# Altium integrated library National Semiconductor LDO.IntLib: 2675 symbols (part 22 of 65)
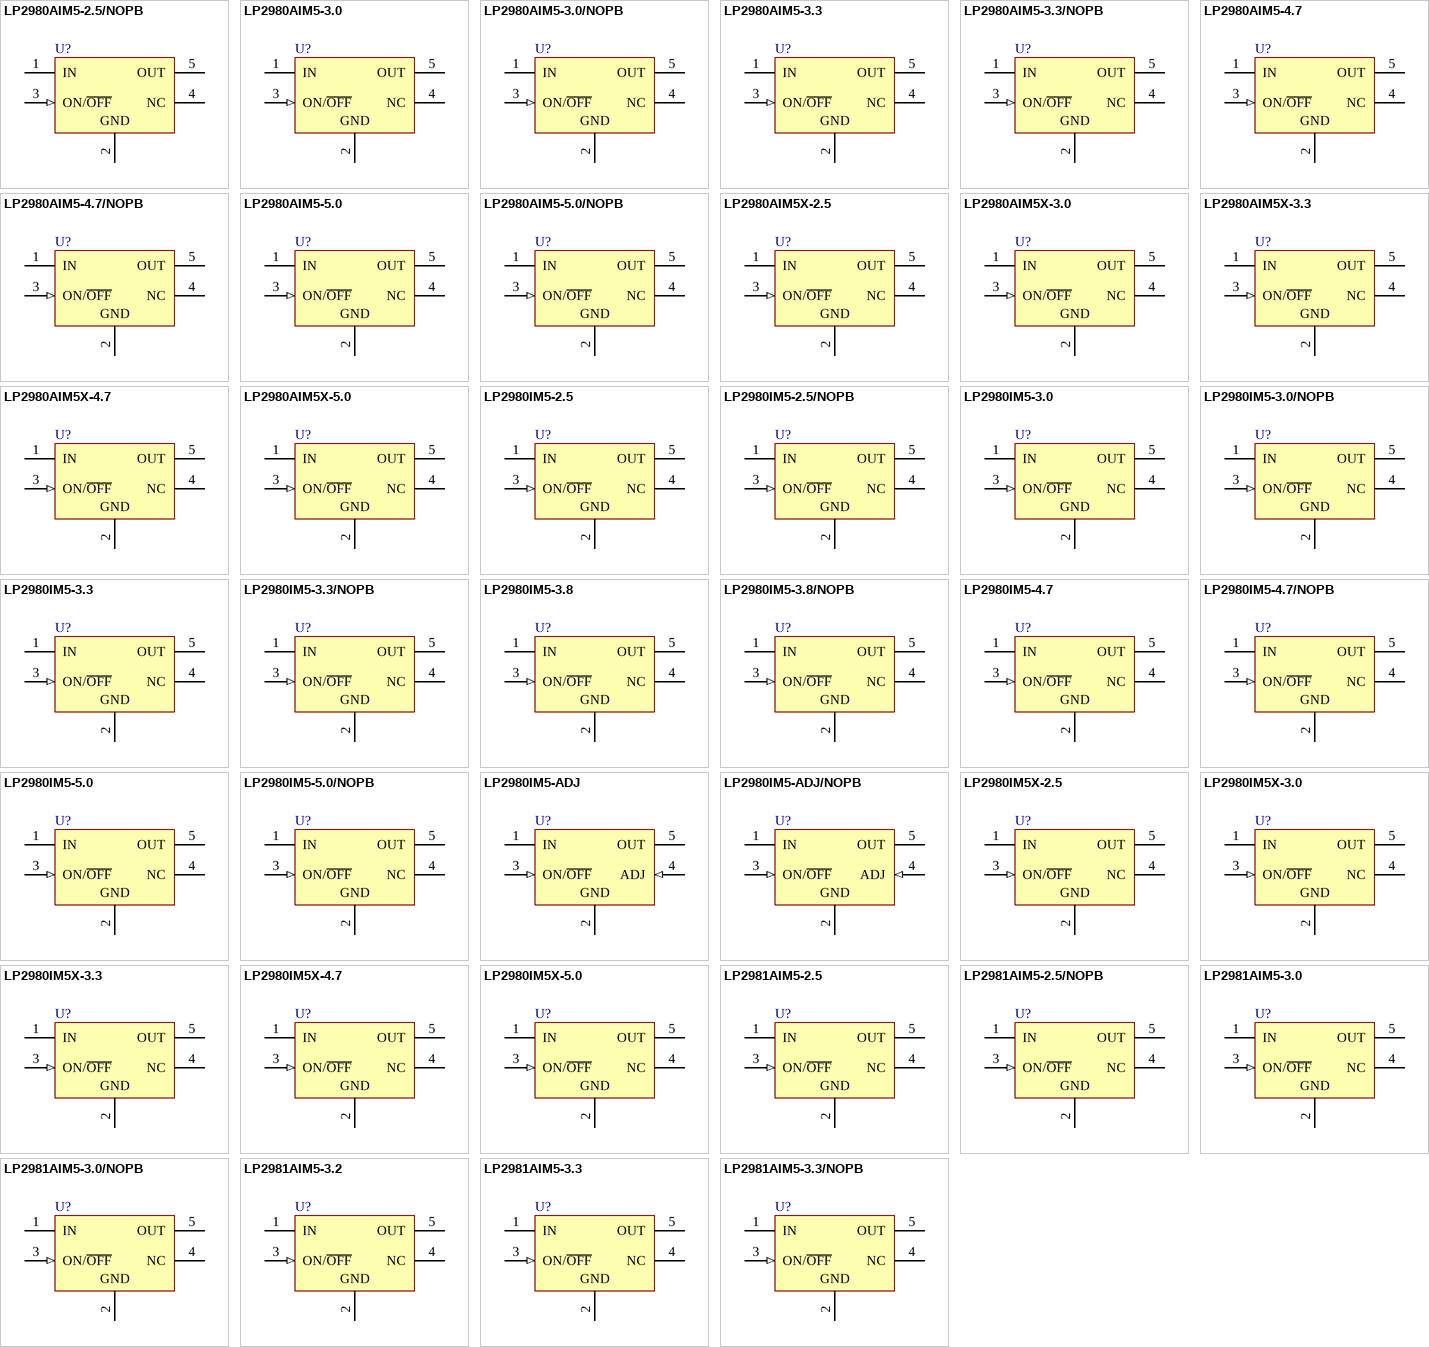
[diagram p88: symbols LP2980AIM5-2.5/NOPB to LP2981AIM5-3.3/NOPB]

## LP2980IM5-3.8/NOPB
designator U?
Micropower 50 mA Ultra Low-Dropout Regulator, 5-pin SOT-23, Pb-Free; PartNumber: LP2980IM5-3.8/NOPB; Manufacturer: National Semiconductor; PackageTopMarking: L21B*XTT; PowerWise: N; CompType: LDO IC; High-Reliability: Y; DatasheetVersion: Sep-2006; PackageVersion: revD, Aug-2008; PackageReference: MF05A; PackageDescription: Molded SOT-23, .115 x .063 x .040 in Body, 5 Lead, .0375 in Pitch; RoHS: Y; PinCount: 5; ComponentLink1Description: Manufacturer URL; ComponentLink1URL: http://www.national.com/; ComponentLink2Description: LP2980 Datasheet; ComponentLink2URL: http://www.national.com/ds/LP/LP2980.pdf; ComponentLink3Description: LP2980 Web Page; ComponentLink3URL: http://www.national.com/pf/LP/LP2980.html; ComponentLink4Description: MF05A Package Page; ComponentLink4URL: http://www.national.com/packaging/folders/mf05a.html
footprint MF05A_N (SOT23, 5-Leads, Body 2.9x1.6mm, Pitch 0.95mm, Lead Span 2.8mm, IPC Medium Density)
footprint MF05A_L (SOT23, 5-Leads, Body 2.9x1.6mm, Pitch 0.95mm, Lead Span 2.8mm, IPC High Density)
footprint MF05A_M (SOT23, 5-Leads, Body 2.9x1.6mm, Pitch 0.95mm, Lead Span 2.8mm, IPC Low Density)
pins: 1 IN (power), 2 GND (power), 3 ON/~{OFF} (in), 4 NC, 5 OUT (power)

## LP2980IM5-4.7
designator U?
Micropower 50 mA Ultra Low-Dropout Regulator, 5-pin SOT-23; PartNumber: LP2980IM5-4.7; Manufacturer: National Semiconductor; PackageTopMarking: L37B*XTT; PowerWise: N; CompType: LDO IC; High-Reliability: Y; DatasheetVersion: Sep-2006; PackageVersion: revD, Aug-2008; PackageReference: MF05A; PackageDescription: Molded SOT-23, .115 x .063 x .040 in Body, 5 Lead, .0375 in Pitch; RoHS: N; PinCount: 5; ComponentLink1Description: Manufacturer URL; ComponentLink1URL: http://www.national.com/; ComponentLink2Description: LP2980 Datasheet; ComponentLink2URL: http://www.national.com/ds/LP/LP2980.pdf; ComponentLink3Description: LP2980 Web Page; ComponentLink3URL: http://www.national.com/pf/LP/LP2980.html; ComponentLink4Description: MF05A Package Page; ComponentLink4URL: http://www.national.com/packaging/folders/mf05a.html
footprint MF05A_N (SOT23, 5-Leads, Body 2.9x1.6mm, Pitch 0.95mm, Lead Span 2.8mm, IPC Medium Density)
footprint MF05A_L (SOT23, 5-Leads, Body 2.9x1.6mm, Pitch 0.95mm, Lead Span 2.8mm, IPC High Density)
footprint MF05A_M (SOT23, 5-Leads, Body 2.9x1.6mm, Pitch 0.95mm, Lead Span 2.8mm, IPC Low Density)
pins: 1 IN (power), 2 GND (power), 3 ON/~{OFF} (in), 4 NC, 5 OUT (power)

## LP2980IM5-4.7/NOPB
designator U?
Micropower 50 mA Ultra Low-Dropout Regulator, 5-pin SOT-23, Pb-Free; PartNumber: LP2980IM5-4.7/NOPB; Manufacturer: National Semiconductor; PackageTopMarking: L37B*XTT; PowerWise: N; CompType: LDO IC; High-Reliability: Y; DatasheetVersion: Sep-2006; PackageVersion: revD, Aug-2008; PackageReference: MF05A; PackageDescription: Molded SOT-23, .115 x .063 x .040 in Body, 5 Lead, .0375 in Pitch; RoHS: Y; PinCount: 5; ComponentLink1Description: Manufacturer URL; ComponentLink1URL: http://www.national.com/; ComponentLink2Description: LP2980 Datasheet; ComponentLink2URL: http://www.national.com/ds/LP/LP2980.pdf; ComponentLink3Description: LP2980 Web Page; ComponentLink3URL: http://www.national.com/pf/LP/LP2980.html; ComponentLink4Description: MF05A Package Page; ComponentLink4URL: http://www.national.com/packaging/folders/mf05a.html
footprint MF05A_N (SOT23, 5-Leads, Body 2.9x1.6mm, Pitch 0.95mm, Lead Span 2.8mm, IPC Medium Density)
footprint MF05A_L (SOT23, 5-Leads, Body 2.9x1.6mm, Pitch 0.95mm, Lead Span 2.8mm, IPC High Density)
footprint MF05A_M (SOT23, 5-Leads, Body 2.9x1.6mm, Pitch 0.95mm, Lead Span 2.8mm, IPC Low Density)
pins: 1 IN (power), 2 GND (power), 3 ON/~{OFF} (in), 4 NC, 5 OUT (power)

## LP2980IM5-5.0
designator U?
Micropower 50 mA Ultra Low-Dropout Regulator, 5-pin SOT-23; PartNumber: LP2980IM5-5.0; Manufacturer: National Semiconductor; PackageTopMarking: L01B*XTT; PowerWise: N; CompType: LDO IC; High-Reliability: Y; DatasheetVersion: Sep-2006; PackageVersion: revD, Aug-2008; PackageReference: MF05A; PackageDescription: Molded SOT-23, .115 x .063 x .040 in Body, 5 Lead, .0375 in Pitch; RoHS: N; PinCount: 5; ComponentLink1Description: Manufacturer URL; ComponentLink1URL: http://www.national.com/; ComponentLink2Description: LP2980 Datasheet; ComponentLink2URL: http://www.national.com/ds/LP/LP2980.pdf; ComponentLink3Description: LP2980 Web Page; ComponentLink3URL: http://www.national.com/pf/LP/LP2980.html; ComponentLink4Description: MF05A Package Page; ComponentLink4URL: http://www.national.com/packaging/folders/mf05a.html
footprint MF05A_N (SOT23, 5-Leads, Body 2.9x1.6mm, Pitch 0.95mm, Lead Span 2.8mm, IPC Medium Density)
footprint MF05A_L (SOT23, 5-Leads, Body 2.9x1.6mm, Pitch 0.95mm, Lead Span 2.8mm, IPC High Density)
footprint MF05A_M (SOT23, 5-Leads, Body 2.9x1.6mm, Pitch 0.95mm, Lead Span 2.8mm, IPC Low Density)
pins: 1 IN (power), 2 GND (power), 3 ON/~{OFF} (in), 4 NC, 5 OUT (power)

## LP2980IM5-5.0/NOPB
designator U?
Micropower 50 mA Ultra Low-Dropout Regulator, 5-pin SOT-23, Pb-Free; PartNumber: LP2980IM5-5.0/NOPB; Manufacturer: National Semiconductor; PackageTopMarking: L01B*XTT; PowerWise: N; CompType: LDO IC; High-Reliability: Y; DatasheetVersion: Sep-2006; PackageVersion: revD, Aug-2008; PackageReference: MF05A; PackageDescription: Molded SOT-23, .115 x .063 x .040 in Body, 5 Lead, .0375 in Pitch; RoHS: Y; PinCount: 5; ComponentLink1Description: Manufacturer URL; ComponentLink1URL: http://www.national.com/; ComponentLink2Description: LP2980 Datasheet; ComponentLink2URL: http://www.national.com/ds/LP/LP2980.pdf; ComponentLink3Description: LP2980 Web Page; ComponentLink3URL: http://www.national.com/pf/LP/LP2980.html; ComponentLink4Description: MF05A Package Page; ComponentLink4URL: http://www.national.com/packaging/folders/mf05a.html
footprint MF05A_N (SOT23, 5-Leads, Body 2.9x1.6mm, Pitch 0.95mm, Lead Span 2.8mm, IPC Medium Density)
footprint MF05A_L (SOT23, 5-Leads, Body 2.9x1.6mm, Pitch 0.95mm, Lead Span 2.8mm, IPC High Density)
footprint MF05A_M (SOT23, 5-Leads, Body 2.9x1.6mm, Pitch 0.95mm, Lead Span 2.8mm, IPC Low Density)
pins: 1 IN (power), 2 GND (power), 3 ON/~{OFF} (in), 4 NC, 5 OUT (power)

## LP2980IM5-ADJ
designator U?
Micropower 50 mA Ultra Low-Dropout Regulator, 5-pin SOT-23; PartNumber: LP2980IM5-ADJ; Manufacturer: National Semiconductor; PackageTopMarking: L06B*XTT; PowerWise: N; CompType: LDO IC; High-Reliability: Y; DatasheetVersion: Sep-2006; PackageVersion: revD, Aug-2008; PackageReference: MF05A; PackageDescription: Molded SOT-23, .115 x .063 x .040 in Body, 5 Lead, .0375 in Pitch; RoHS: N; PinCount: 5; ComponentLink1Description: Manufacturer URL; ComponentLink1URL: http://www.national.com/; ComponentLink2Description: LP2980 Datasheet; ComponentLink2URL: http://www.national.com/ds/LP/LP2980-ADJ.pdf; ComponentLink3Description: LP2980 Web Page; ComponentLink3URL: http://www.national.com/pf/LP/LP2980.html; ComponentLink4Description: MF05A Package Page; ComponentLink4URL: http://www.national.com/packaging/folders/mf05a.html
footprint MF05A_N (SOT23, 5-Leads, Body 2.9x1.6mm, Pitch 0.95mm, Lead Span 2.8mm, IPC Medium Density)
footprint MF05A_L (SOT23, 5-Leads, Body 2.9x1.6mm, Pitch 0.95mm, Lead Span 2.8mm, IPC High Density)
footprint MF05A_M (SOT23, 5-Leads, Body 2.9x1.6mm, Pitch 0.95mm, Lead Span 2.8mm, IPC Low Density)
pins: 1 IN (power), 2 GND (power), 3 ON/~{OFF} (in), 4 ADJ (in), 5 OUT (power)

## LP2980IM5-ADJ/NOPB
designator U?
Micropower 50 mA Ultra Low-Dropout Adjustable Voltage Regulator, 5-pin SOT-23, Pb-Free; PartNumber: LP2980IM5-ADJ/NOPB; Manufacturer: National Semiconductor; PackageTopMarking: L06B*XTT; PowerWise: N; CompType: LDO IC; High-Reliability: Y; DatasheetVersion: Sep-2006; PackageVersion: revD, Aug-2008; PackageReference: MF05A; PackageDescription: Molded SOT-23, .115 x .063 x .040 in Body, 5 Lead, .0375 in Pitch; RoHS: Y; PinCount: 5; ComponentLink1Description: Manufacturer URL; ComponentLink1URL: http://www.national.com/; ComponentLink2Description: LP2980 Datasheet; ComponentLink2URL: http://www.national.com/ds/LP/LP2980-ADJ.pdf; ComponentLink3Description: LP2980 Web Page; ComponentLink3URL: http://www.national.com/pf/LP/LP2980.html; ComponentLink4Description: MF05A Package Page; ComponentLink4URL: http://www.national.com/packaging/folders/mf05a.html
footprint MF05A_N (SOT23, 5-Leads, Body 2.9x1.6mm, Pitch 0.95mm, Lead Span 2.8mm, IPC Medium Density)
footprint MF05A_L (SOT23, 5-Leads, Body 2.9x1.6mm, Pitch 0.95mm, Lead Span 2.8mm, IPC High Density)
footprint MF05A_M (SOT23, 5-Leads, Body 2.9x1.6mm, Pitch 0.95mm, Lead Span 2.8mm, IPC Low Density)
pins: 1 IN (power), 2 GND (power), 3 ON/~{OFF} (in), 4 ADJ (in), 5 OUT (power)

## LP2980IM5X-2.5
designator U?
Micropower 50 mA Ultra Low-Dropout Regulator, 5-pin SOT-23; PartNumber: LP2980IM5X-2.5; Manufacturer: National Semiconductor; PackageTopMarking: L0NB*XTT; PowerWise: N; CompType: LDO IC; High-Reliability: Y; DatasheetVersion: Sep-2006; PackageVersion: revD, Aug-2008; PackageReference: MF05A; PackageDescription: Molded SOT-23, .115 x .063 x .040 in Body, 5 Lead, .0375 in Pitch; RoHS: N; PinCount: 5; ComponentLink1Description: Manufacturer URL; ComponentLink1URL: http://www.national.com/; ComponentLink2Description: LP2980 Datasheet; ComponentLink2URL: http://www.national.com/ds/LP/LP2980.pdf; ComponentLink3Description: LP2980 Web Page; ComponentLink3URL: http://www.national.com/pf/LP/LP2980.html; ComponentLink4Description: MF05A Package Page; ComponentLink4URL: http://www.national.com/packaging/folders/mf05a.html
footprint MF05A_N (SOT23, 5-Leads, Body 2.9x1.6mm, Pitch 0.95mm, Lead Span 2.8mm, IPC Medium Density)
footprint MF05A_L (SOT23, 5-Leads, Body 2.9x1.6mm, Pitch 0.95mm, Lead Span 2.8mm, IPC High Density)
footprint MF05A_M (SOT23, 5-Leads, Body 2.9x1.6mm, Pitch 0.95mm, Lead Span 2.8mm, IPC Low Density)
pins: 1 IN (power), 2 GND (power), 3 ON/~{OFF} (in), 4 NC, 5 OUT (power)

## LP2980IM5X-3.0
designator U?
Micropower 50 mA Ultra Low-Dropout Regulator, 5-pin SOT-23; PartNumber: LP2980IM5X-3.0; Manufacturer: National Semiconductor; PackageTopMarking: L02B*XTT; PowerWise: N; CompType: LDO IC; High-Reliability: Y; DatasheetVersion: Sep-2006; PackageVersion: revD, Aug-2008; PackageReference: MF05A; PackageDescription: Molded SOT-23, .115 x .063 x .040 in Body, 5 Lead, .0375 in Pitch; RoHS: N; PinCount: 5; ComponentLink1Description: Manufacturer URL; ComponentLink1URL: http://www.national.com/; ComponentLink2Description: LP2980 Datasheet; ComponentLink2URL: http://www.national.com/ds/LP/LP2980.pdf; ComponentLink3Description: LP2980 Web Page; ComponentLink3URL: http://www.national.com/pf/LP/LP2980.html; ComponentLink4Description: MF05A Package Page; ComponentLink4URL: http://www.national.com/packaging/folders/mf05a.html
footprint MF05A_N (SOT23, 5-Leads, Body 2.9x1.6mm, Pitch 0.95mm, Lead Span 2.8mm, IPC Medium Density)
footprint MF05A_L (SOT23, 5-Leads, Body 2.9x1.6mm, Pitch 0.95mm, Lead Span 2.8mm, IPC High Density)
footprint MF05A_M (SOT23, 5-Leads, Body 2.9x1.6mm, Pitch 0.95mm, Lead Span 2.8mm, IPC Low Density)
pins: 1 IN (power), 2 GND (power), 3 ON/~{OFF} (in), 4 NC, 5 OUT (power)

## LP2980IM5X-3.3
designator U?
Micropower 50 mA Ultra Low-Dropout Regulator, 5-pin SOT-23; PartNumber: LP2980IM5X-3.3; Manufacturer: National Semiconductor; PackageTopMarking: L00B*XTT; PowerWise: N; CompType: LDO IC; High-Reliability: Y; DatasheetVersion: Sep-2006; PackageVersion: revD, Aug-2008; PackageReference: MF05A; PackageDescription: Molded SOT-23, .115 x .063 x .040 in Body, 5 Lead, .0375 in Pitch; RoHS: N; PinCount: 5; ComponentLink1Description: Manufacturer URL; ComponentLink1URL: http://www.national.com/; ComponentLink2Description: LP2980 Datasheet; ComponentLink2URL: http://www.national.com/ds/LP/LP2980.pdf; ComponentLink3Description: LP2980 Web Page; ComponentLink3URL: http://www.national.com/pf/LP/LP2980.html; ComponentLink4Description: MF05A Package Page; ComponentLink4URL: http://www.national.com/packaging/folders/mf05a.html
footprint MF05A_N (SOT23, 5-Leads, Body 2.9x1.6mm, Pitch 0.95mm, Lead Span 2.8mm, IPC Medium Density)
footprint MF05A_L (SOT23, 5-Leads, Body 2.9x1.6mm, Pitch 0.95mm, Lead Span 2.8mm, IPC High Density)
footprint MF05A_M (SOT23, 5-Leads, Body 2.9x1.6mm, Pitch 0.95mm, Lead Span 2.8mm, IPC Low Density)
pins: 1 IN (power), 2 GND (power), 3 ON/~{OFF} (in), 4 NC, 5 OUT (power)

## LP2980IM5X-4.7
designator U?
Micropower 50 mA Ultra Low-Dropout Regulator, 5-pin SOT-23; PartNumber: LP2980IM5X-4.7; Manufacturer: National Semiconductor; PackageTopMarking: L37B*XTT; PowerWise: N; CompType: LDO IC; High-Reliability: Y; DatasheetVersion: Sep-2006; PackageVersion: revD, Aug-2008; PackageReference: MF05A; PackageDescription: Molded SOT-23, .115 x .063 x .040 in Body, 5 Lead, .0375 in Pitch; RoHS: N; PinCount: 5; ComponentLink1Description: Manufacturer URL; ComponentLink1URL: http://www.national.com/; ComponentLink2Description: LP2980 Datasheet; ComponentLink2URL: http://www.national.com/ds/LP/LP2980.pdf; ComponentLink3Description: LP2980 Web Page; ComponentLink3URL: http://www.national.com/pf/LP/LP2980.html; ComponentLink4Description: MF05A Package Page; ComponentLink4URL: http://www.national.com/packaging/folders/mf05a.html
footprint MF05A_N (SOT23, 5-Leads, Body 2.9x1.6mm, Pitch 0.95mm, Lead Span 2.8mm, IPC Medium Density)
footprint MF05A_L (SOT23, 5-Leads, Body 2.9x1.6mm, Pitch 0.95mm, Lead Span 2.8mm, IPC High Density)
footprint MF05A_M (SOT23, 5-Leads, Body 2.9x1.6mm, Pitch 0.95mm, Lead Span 2.8mm, IPC Low Density)
pins: 1 IN (power), 2 GND (power), 3 ON/~{OFF} (in), 4 NC, 5 OUT (power)

## LP2980IM5X-5.0
designator U?
Micropower 50 mA Ultra Low-Dropout Regulator, 5-pin SOT-23; PartNumber: LP2980IM5X-5.0; Manufacturer: National Semiconductor; PackageTopMarking: L01B*XTT; PowerWise: N; CompType: LDO IC; High-Reliability: Y; DatasheetVersion: Sep-2006; PackageVersion: revD, Aug-2008; PackageReference: MF05A; PackageDescription: Molded SOT-23, .115 x .063 x .040 in Body, 5 Lead, .0375 in Pitch; RoHS: N; PinCount: 5; ComponentLink1Description: Manufacturer URL; ComponentLink1URL: http://www.national.com/; ComponentLink2Description: LP2980 Datasheet; ComponentLink2URL: http://www.national.com/ds/LP/LP2980.pdf; ComponentLink3Description: LP2980 Web Page; ComponentLink3URL: http://www.national.com/pf/LP/LP2980.html; ComponentLink4Description: MF05A Package Page; ComponentLink4URL: http://www.national.com/packaging/folders/mf05a.html
footprint MF05A_N (SOT23, 5-Leads, Body 2.9x1.6mm, Pitch 0.95mm, Lead Span 2.8mm, IPC Medium Density)
footprint MF05A_L (SOT23, 5-Leads, Body 2.9x1.6mm, Pitch 0.95mm, Lead Span 2.8mm, IPC High Density)
footprint MF05A_M (SOT23, 5-Leads, Body 2.9x1.6mm, Pitch 0.95mm, Lead Span 2.8mm, IPC Low Density)
pins: 1 IN (power), 2 GND (power), 3 ON/~{OFF} (in), 4 NC, 5 OUT (power)

## LP2981AIM5-2.5
designator U?
Micropower 100 mA Ultra Low-Dropout Regulator, 5-pin SOT-23; PartNumber: LP2981AIM5-2.5; Manufacturer: National Semiconductor; PackageTopMarking: L0CA*XTT; PowerWise: N; CompType: LDO IC; High-Reliability: Y; DatasheetVersion: Feb-2006; PackageVersion: revD, Aug-2008; PackageReference: MF05A; PackageDescription: Molded SOT-23, .115 x .063 x .040 in Body, 5 Lead, .0375 in Pitch; RoHS: N; PinCount: 5; ComponentLink1Description: Manufacturer URL; ComponentLink1URL: http://www.national.com/; ComponentLink2Description: LP2981 Datasheet; ComponentLink2URL: http://www.national.com/ds/LP/LP2981.pdf; ComponentLink3Description: LP2981 Web Page; ComponentLink3URL: http://www.national.com/pf/LP/LP2981.html; ComponentLink4Description: MF05A Package Page; ComponentLink4URL: http://www.national.com/packaging/folders/mf05a.html
footprint MF05A_N (SOT23, 5-Leads, Body 2.9x1.6mm, Pitch 0.95mm, Lead Span 2.8mm, IPC Medium Density)
footprint MF05A_L (SOT23, 5-Leads, Body 2.9x1.6mm, Pitch 0.95mm, Lead Span 2.8mm, IPC High Density)
footprint MF05A_M (SOT23, 5-Leads, Body 2.9x1.6mm, Pitch 0.95mm, Lead Span 2.8mm, IPC Low Density)
pins: 1 IN (power), 2 GND (power), 3 ON/~{OFF} (in), 4 NC, 5 OUT (power)

## LP2981AIM5-2.5/NOPB
designator U?
Micropower 100 mA Ultra Low-Dropout Regulator, 5-pin SOT-23, Pb-Free; PartNumber: LP2981AIM5-2.5/NOPB; Manufacturer: National Semiconductor; PackageTopMarking: L0CA*XTT; PowerWise: N; CompType: LDO IC; High-Reliability: Y; DatasheetVersion: Feb-2006; PackageVersion: revD, Aug-2008; PackageReference: MF05A; PackageDescription: Molded SOT-23, .115 x .063 x .040 in Body, 5 Lead, .0375 in Pitch; RoHS: Y; PinCount: 5; ComponentLink1Description: Manufacturer URL; ComponentLink1URL: http://www.national.com/; ComponentLink2Description: LP2981 Datasheet; ComponentLink2URL: http://www.national.com/ds/LP/LP2981.pdf; ComponentLink3Description: LP2981 Web Page; ComponentLink3URL: http://www.national.com/pf/LP/LP2981.html; ComponentLink4Description: MF05A Package Page; ComponentLink4URL: http://www.national.com/packaging/folders/mf05a.html
footprint MF05A_N (SOT23, 5-Leads, Body 2.9x1.6mm, Pitch 0.95mm, Lead Span 2.8mm, IPC Medium Density)
footprint MF05A_L (SOT23, 5-Leads, Body 2.9x1.6mm, Pitch 0.95mm, Lead Span 2.8mm, IPC High Density)
footprint MF05A_M (SOT23, 5-Leads, Body 2.9x1.6mm, Pitch 0.95mm, Lead Span 2.8mm, IPC Low Density)
pins: 1 IN (power), 2 GND (power), 3 ON/~{OFF} (in), 4 NC, 5 OUT (power)

## LP2981AIM5-3.0
designator U?
Micropower 100 mA Ultra Low-Dropout Regulator, 5-pin SOT-23; PartNumber: LP2981AIM5-3.0; Manufacturer: National Semiconductor; PackageTopMarking: L05A*XTT; PowerWise: N; CompType: LDO IC; High-Reliability: Y; DatasheetVersion: Feb-2006; PackageVersion: revD, Aug-2008; PackageReference: MF05A; PackageDescription: Molded SOT-23, .115 x .063 x .040 in Body, 5 Lead, .0375 in Pitch; RoHS: N; PinCount: 5; ComponentLink1Description: Manufacturer URL; ComponentLink1URL: http://www.national.com/; ComponentLink2Description: LP2981 Datasheet; ComponentLink2URL: http://www.national.com/ds/LP/LP2981.pdf; ComponentLink3Description: LP2981 Web Page; ComponentLink3URL: http://www.national.com/pf/LP/LP2981.html; ComponentLink4Description: MF05A Package Page; ComponentLink4URL: http://www.national.com/packaging/folders/mf05a.html
footprint MF05A_N (SOT23, 5-Leads, Body 2.9x1.6mm, Pitch 0.95mm, Lead Span 2.8mm, IPC Medium Density)
footprint MF05A_L (SOT23, 5-Leads, Body 2.9x1.6mm, Pitch 0.95mm, Lead Span 2.8mm, IPC High Density)
footprint MF05A_M (SOT23, 5-Leads, Body 2.9x1.6mm, Pitch 0.95mm, Lead Span 2.8mm, IPC Low Density)
pins: 1 IN (power), 2 GND (power), 3 ON/~{OFF} (in), 4 NC, 5 OUT (power)

## LP2981AIM5-3.0/NOPB
designator U?
Micropower 100 mA Ultra Low-Dropout Regulator, 5-pin SOT-23, Pb-Free; PartNumber: LP2981AIM5-3.0/NOPB; Manufacturer: National Semiconductor; PackageTopMarking: L05A*XTT; PowerWise: N; CompType: LDO IC; High-Reliability: Y; DatasheetVersion: Feb-2006; PackageVersion: revD, Aug-2008; PackageReference: MF05A; PackageDescription: Molded SOT-23, .115 x .063 x .040 in Body, 5 Lead, .0375 in Pitch; RoHS: Y; PinCount: 5; ComponentLink1Description: Manufacturer URL; ComponentLink1URL: http://www.national.com/; ComponentLink2Description: LP2981 Datasheet; ComponentLink2URL: http://www.national.com/ds/LP/LP2981.pdf; ComponentLink3Description: LP2981 Web Page; ComponentLink3URL: http://www.national.com/pf/LP/LP2981.html; ComponentLink4Description: MF05A Package Page; ComponentLink4URL: http://www.national.com/packaging/folders/mf05a.html
footprint MF05A_N (SOT23, 5-Leads, Body 2.9x1.6mm, Pitch 0.95mm, Lead Span 2.8mm, IPC Medium Density)
footprint MF05A_L (SOT23, 5-Leads, Body 2.9x1.6mm, Pitch 0.95mm, Lead Span 2.8mm, IPC High Density)
footprint MF05A_M (SOT23, 5-Leads, Body 2.9x1.6mm, Pitch 0.95mm, Lead Span 2.8mm, IPC Low Density)
pins: 1 IN (power), 2 GND (power), 3 ON/~{OFF} (in), 4 NC, 5 OUT (power)

## LP2981AIM5-3.2
designator U?
Micropower 100 mA Ultra Low-Dropout Regulator, 5-pin SOT-23; PartNumber: LP2981AIM5-3.2; Manufacturer: National Semiconductor; PackageTopMarking: L35A*XTT; PowerWise: N; CompType: LDO IC; High-Reliability: Y; DatasheetVersion: Feb-2006; PackageVersion: revD, Aug-2008; PackageReference: MF05A; PackageDescription: Molded SOT-23, .115 x .063 x .040 in Body, 5 Lead, .0375 in Pitch; RoHS: N; PinCount: 5; ComponentLink1Description: Manufacturer URL; ComponentLink1URL: http://www.national.com/; ComponentLink2Description: LP2981 Datasheet; ComponentLink2URL: http://www.national.com/ds/LP/LP2981.pdf; ComponentLink3Description: LP2981 Web Page; ComponentLink3URL: http://www.national.com/pf/LP/LP2981.html; ComponentLink4Description: MF05A Package Page; ComponentLink4URL: http://www.national.com/packaging/folders/mf05a.html
footprint MF05A_N (SOT23, 5-Leads, Body 2.9x1.6mm, Pitch 0.95mm, Lead Span 2.8mm, IPC Medium Density)
footprint MF05A_L (SOT23, 5-Leads, Body 2.9x1.6mm, Pitch 0.95mm, Lead Span 2.8mm, IPC High Density)
footprint MF05A_M (SOT23, 5-Leads, Body 2.9x1.6mm, Pitch 0.95mm, Lead Span 2.8mm, IPC Low Density)
pins: 1 IN (power), 2 GND (power), 3 ON/~{OFF} (in), 4 NC, 5 OUT (power)

## LP2981AIM5-3.3
designator U?
Micropower 100 mA Ultra Low-Dropout Regulator, 5-pin SOT-23; PartNumber: LP2981AIM5-3.3; Manufacturer: National Semiconductor; PackageTopMarking: L04A*XTT; PowerWise: N; CompType: LDO IC; High-Reliability: Y; DatasheetVersion: Feb-2006; PackageVersion: revD, Aug-2008; PackageReference: MF05A; PackageDescription: Molded SOT-23, .115 x .063 x .040 in Body, 5 Lead, .0375 in Pitch; RoHS: N; PinCount: 5; ComponentLink1Description: Manufacturer URL; ComponentLink1URL: http://www.national.com/; ComponentLink2Description: LP2981 Datasheet; ComponentLink2URL: http://www.national.com/ds/LP/LP2981.pdf; ComponentLink3Description: LP2981 Web Page; ComponentLink3URL: http://www.national.com/pf/LP/LP2981.html; ComponentLink4Description: MF05A Package Page; ComponentLink4URL: http://www.national.com/packaging/folders/mf05a.html
footprint MF05A_N (SOT23, 5-Leads, Body 2.9x1.6mm, Pitch 0.95mm, Lead Span 2.8mm, IPC Medium Density)
footprint MF05A_L (SOT23, 5-Leads, Body 2.9x1.6mm, Pitch 0.95mm, Lead Span 2.8mm, IPC High Density)
footprint MF05A_M (SOT23, 5-Leads, Body 2.9x1.6mm, Pitch 0.95mm, Lead Span 2.8mm, IPC Low Density)
pins: 1 IN (power), 2 GND (power), 3 ON/~{OFF} (in), 4 NC, 5 OUT (power)

## LP2981AIM5-3.3/NOPB
designator U?
Micropower 100 mA Ultra Low-Dropout Regulator, 5-pin SOT-23, Pb-Free; PartNumber: LP2981AIM5-3.3/NOPB; Manufacturer: National Semiconductor; PackageTopMarking: L04A*XTT; PowerWise: N; CompType: LDO IC; High-Reliability: Y; DatasheetVersion: Feb-2006; PackageVersion: revD, Aug-2008; PackageReference: MF05A; PackageDescription: Molded SOT-23, .115 x .063 x .040 in Body, 5 Lead, .0375 in Pitch; RoHS: Y; PinCount: 5; ComponentLink1Description: Manufacturer URL; ComponentLink1URL: http://www.national.com/; ComponentLink2Description: LP2981 Datasheet; ComponentLink2URL: http://www.national.com/ds/LP/LP2981.pdf; ComponentLink3Description: LP2981 Web Page; ComponentLink3URL: http://www.national.com/pf/LP/LP2981.html; ComponentLink4Description: MF05A Package Page; ComponentLink4URL: http://www.national.com/packaging/folders/mf05a.html
footprint MF05A_N (SOT23, 5-Leads, Body 2.9x1.6mm, Pitch 0.95mm, Lead Span 2.8mm, IPC Medium Density)
footprint MF05A_L (SOT23, 5-Leads, Body 2.9x1.6mm, Pitch 0.95mm, Lead Span 2.8mm, IPC High Density)
footprint MF05A_M (SOT23, 5-Leads, Body 2.9x1.6mm, Pitch 0.95mm, Lead Span 2.8mm, IPC Low Density)
pins: 1 IN (power), 2 GND (power), 3 ON/~{OFF} (in), 4 NC, 5 OUT (power)

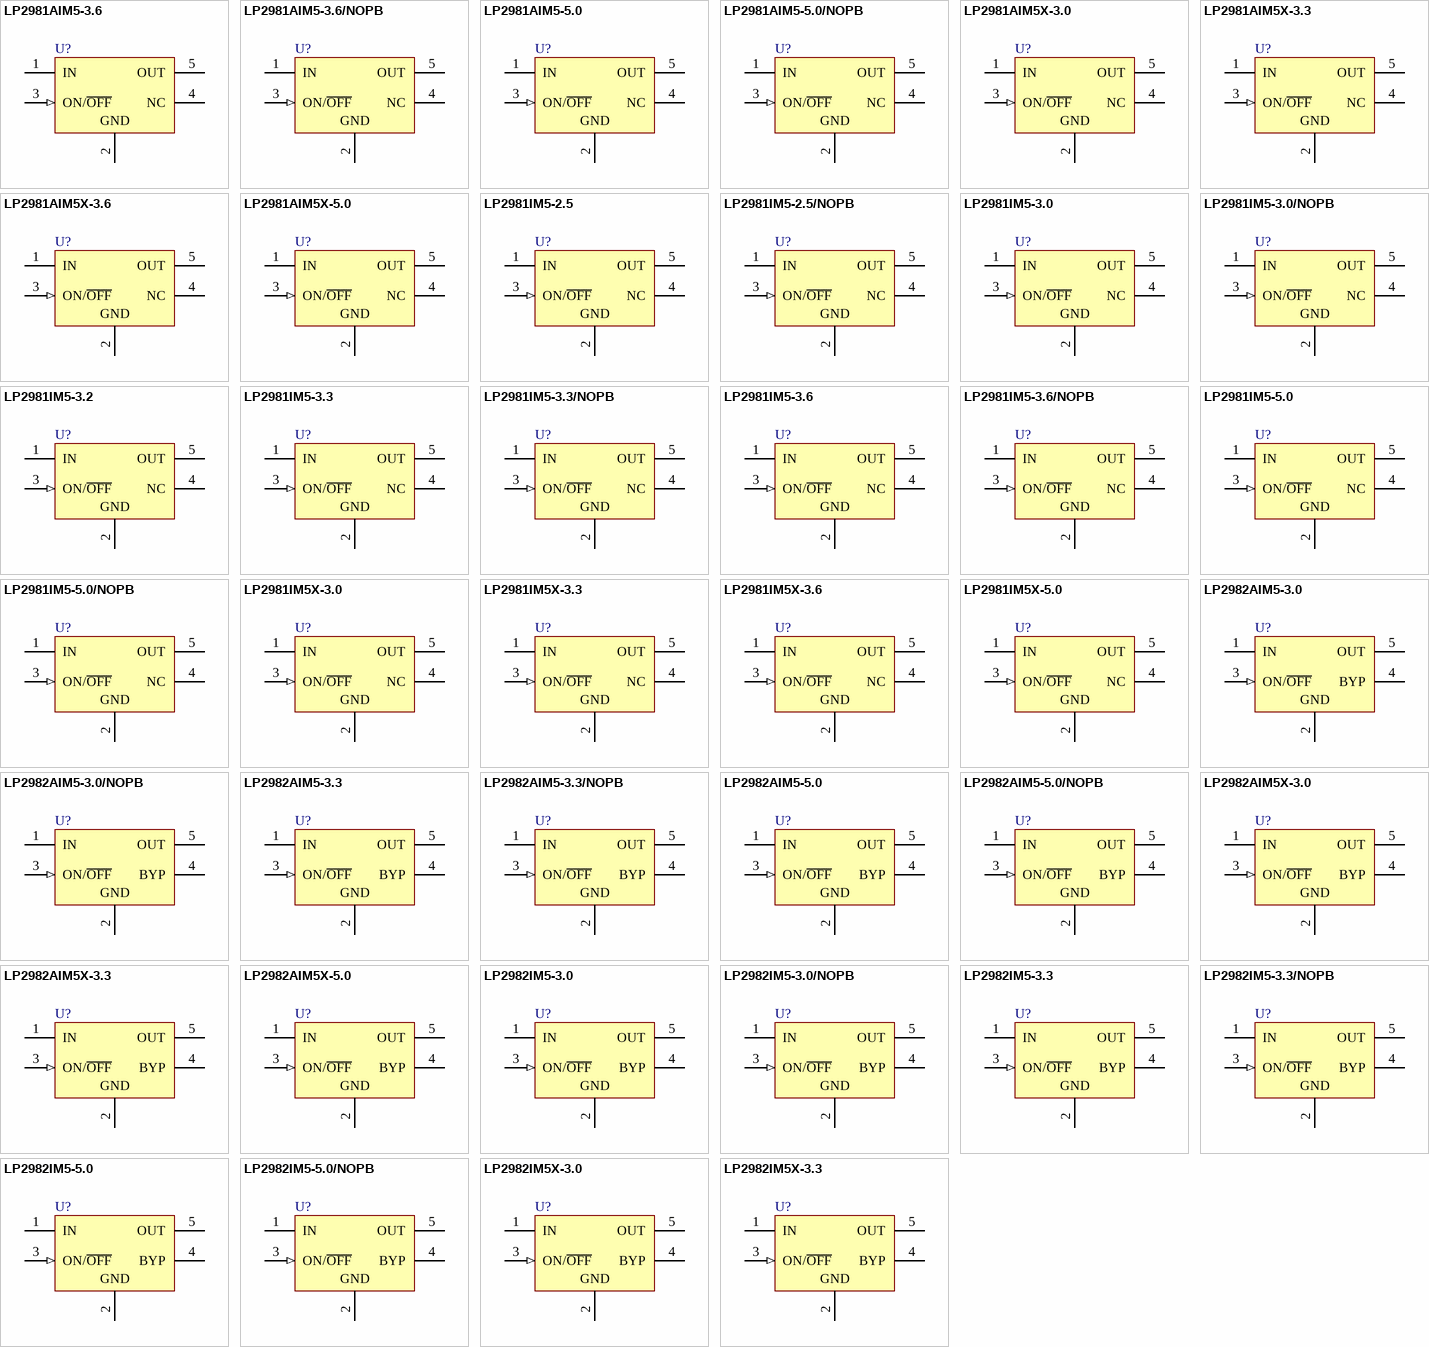
[diagram p23: symbols LP2981AIM5-3.6 to LP2982IM5X-3.3]

## LP2981AIM5-3.6
designator U?
Micropower 100 mA Ultra Low-Dropout Regulator, 5-pin SOT-23; PartNumber: LP2981AIM5-3.6; Manufacturer: National Semiconductor; PackageTopMarking: L0JA*XTT; PowerWise: N; CompType: LDO IC; High-Reliability: Y; DatasheetVersion: Feb-2006; PackageVersion: revD, Aug-2008; PackageReference: MF05A; PackageDescription: Molded SOT-23, .115 x .063 x .040 in Body, 5 Lead, .0375 in Pitch; RoHS: N; PinCount: 5; ComponentLink1Description: Manufacturer URL; ComponentLink1URL: http://www.national.com/; ComponentLink2Description: LP2981 Datasheet; ComponentLink2URL: http://www.national.com/ds/LP/LP2981.pdf; ComponentLink3Description: LP2981 Web Page; ComponentLink3URL: http://www.national.com/pf/LP/LP2981.html; ComponentLink4Description: MF05A Package Page; ComponentLink4URL: http://www.national.com/packaging/folders/mf05a.html
footprint MF05A_N (SOT23, 5-Leads, Body 2.9x1.6mm, Pitch 0.95mm, Lead Span 2.8mm, IPC Medium Density)
footprint MF05A_L (SOT23, 5-Leads, Body 2.9x1.6mm, Pitch 0.95mm, Lead Span 2.8mm, IPC High Density)
footprint MF05A_M (SOT23, 5-Leads, Body 2.9x1.6mm, Pitch 0.95mm, Lead Span 2.8mm, IPC Low Density)
pins: 1 IN (power), 2 GND (power), 3 ON/~{OFF} (in), 4 NC, 5 OUT (power)

## LP2981AIM5-3.6/NOPB
designator U?
Micropower 100 mA Ultra Low-Dropout Regulator, 5-pin SOT-23, Pb-Free; PartNumber: LP2981AIM5-3.6/NOPB; Manufacturer: National Semiconductor; PackageTopMarking: L0JA*XTT; PowerWise: N; CompType: LDO IC; High-Reliability: Y; DatasheetVersion: Feb-2006; PackageVersion: revD, Aug-2008; PackageReference: MF05A; PackageDescription: Molded SOT-23, .115 x .063 x .040 in Body, 5 Lead, .0375 in Pitch; RoHS: Y; PinCount: 5; ComponentLink1Description: Manufacturer URL; ComponentLink1URL: http://www.national.com/; ComponentLink2Description: LP2981 Datasheet; ComponentLink2URL: http://www.national.com/ds/LP/LP2981.pdf; ComponentLink3Description: LP2981 Web Page; ComponentLink3URL: http://www.national.com/pf/LP/LP2981.html; ComponentLink4Description: MF05A Package Page; ComponentLink4URL: http://www.national.com/packaging/folders/mf05a.html
footprint MF05A_N (SOT23, 5-Leads, Body 2.9x1.6mm, Pitch 0.95mm, Lead Span 2.8mm, IPC Medium Density)
footprint MF05A_L (SOT23, 5-Leads, Body 2.9x1.6mm, Pitch 0.95mm, Lead Span 2.8mm, IPC High Density)
footprint MF05A_M (SOT23, 5-Leads, Body 2.9x1.6mm, Pitch 0.95mm, Lead Span 2.8mm, IPC Low Density)
pins: 1 IN (power), 2 GND (power), 3 ON/~{OFF} (in), 4 NC, 5 OUT (power)

## LP2981AIM5-5.0
designator U?
Micropower 100 mA Ultra Low-Dropout Regulator, 5-pin SOT-23; PartNumber: LP2981AIM5-5.0; Manufacturer: National Semiconductor; PackageTopMarking: L03A*XTT; PowerWise: N; CompType: LDO IC; High-Reliability: Y; DatasheetVersion: Feb-2006; PackageVersion: revD, Aug-2008; PackageReference: MF05A; PackageDescription: Molded SOT-23, .115 x .063 x .040 in Body, 5 Lead, .0375 in Pitch; RoHS: N; PinCount: 5; ComponentLink1Description: Manufacturer URL; ComponentLink1URL: http://www.national.com/; ComponentLink2Description: LP2981 Datasheet; ComponentLink2URL: http://www.national.com/ds/LP/LP2981.pdf; ComponentLink3Description: LP2981 Web Page; ComponentLink3URL: http://www.national.com/pf/LP/LP2981.html; ComponentLink4Description: MF05A Package Page; ComponentLink4URL: http://www.national.com/packaging/folders/mf05a.html
footprint MF05A_N (SOT23, 5-Leads, Body 2.9x1.6mm, Pitch 0.95mm, Lead Span 2.8mm, IPC Medium Density)
footprint MF05A_L (SOT23, 5-Leads, Body 2.9x1.6mm, Pitch 0.95mm, Lead Span 2.8mm, IPC High Density)
footprint MF05A_M (SOT23, 5-Leads, Body 2.9x1.6mm, Pitch 0.95mm, Lead Span 2.8mm, IPC Low Density)
pins: 1 IN (power), 2 GND (power), 3 ON/~{OFF} (in), 4 NC, 5 OUT (power)

## LP2981AIM5-5.0/NOPB
designator U?
Micropower 100 mA Ultra Low-Dropout Regulator, 5-pin SOT-23, Pb-Free; PartNumber: LP2981AIM5-5.0/NOPB; Manufacturer: National Semiconductor; PackageTopMarking: L03A*XTT; PowerWise: N; CompType: LDO IC; High-Reliability: Y; DatasheetVersion: Feb-2006; PackageVersion: revD, Aug-2008; PackageReference: MF05A; PackageDescription: Molded SOT-23, .115 x .063 x .040 in Body, 5 Lead, .0375 in Pitch; RoHS: Y; PinCount: 5; ComponentLink1Description: Manufacturer URL; ComponentLink1URL: http://www.national.com/; ComponentLink2Description: LP2981 Datasheet; ComponentLink2URL: http://www.national.com/ds/LP/LP2981.pdf; ComponentLink3Description: LP2981 Web Page; ComponentLink3URL: http://www.national.com/pf/LP/LP2981.html; ComponentLink4Description: MF05A Package Page; ComponentLink4URL: http://www.national.com/packaging/folders/mf05a.html
footprint MF05A_N (SOT23, 5-Leads, Body 2.9x1.6mm, Pitch 0.95mm, Lead Span 2.8mm, IPC Medium Density)
footprint MF05A_L (SOT23, 5-Leads, Body 2.9x1.6mm, Pitch 0.95mm, Lead Span 2.8mm, IPC High Density)
footprint MF05A_M (SOT23, 5-Leads, Body 2.9x1.6mm, Pitch 0.95mm, Lead Span 2.8mm, IPC Low Density)
pins: 1 IN (power), 2 GND (power), 3 ON/~{OFF} (in), 4 NC, 5 OUT (power)

## LP2981AIM5X-3.0
designator U?
Micropower 100 mA Ultra Low-Dropout Regulator, 5-pin SOT-23; PartNumber: LP2981AIM5X-3.0; Manufacturer: National Semiconductor; PackageTopMarking: L05A*XTT; PowerWise: N; CompType: LDO IC; High-Reliability: Y; DatasheetVersion: Feb-2006; PackageVersion: revD, Aug-2008; PackageReference: MF05A; PackageDescription: Molded SOT-23, .115 x .063 x .040 in Body, 5 Lead, .0375 in Pitch; RoHS: N; PinCount: 5; ComponentLink1Description: Manufacturer URL; ComponentLink1URL: http://www.national.com/; ComponentLink2Description: LP2981 Datasheet; ComponentLink2URL: http://www.national.com/ds/LP/LP2981.pdf; ComponentLink3Description: LP2981 Web Page; ComponentLink3URL: http://www.national.com/pf/LP/LP2981.html; ComponentLink4Description: MF05A Package Page; ComponentLink4URL: http://www.national.com/packaging/folders/mf05a.html
footprint MF05A_N (SOT23, 5-Leads, Body 2.9x1.6mm, Pitch 0.95mm, Lead Span 2.8mm, IPC Medium Density)
footprint MF05A_L (SOT23, 5-Leads, Body 2.9x1.6mm, Pitch 0.95mm, Lead Span 2.8mm, IPC High Density)
footprint MF05A_M (SOT23, 5-Leads, Body 2.9x1.6mm, Pitch 0.95mm, Lead Span 2.8mm, IPC Low Density)
pins: 1 IN (power), 2 GND (power), 3 ON/~{OFF} (in), 4 NC, 5 OUT (power)

## LP2981AIM5X-3.3
designator U?
Micropower 100 mA Ultra Low-Dropout Regulator, 5-pin SOT-23; PartNumber: LP2981AIM5X-3.3; Manufacturer: National Semiconductor; PackageTopMarking: L04A*XTT; PowerWise: N; CompType: LDO IC; High-Reliability: Y; DatasheetVersion: Feb-2006; PackageVersion: revD, Aug-2008; PackageReference: MF05A; PackageDescription: Molded SOT-23, .115 x .063 x .040 in Body, 5 Lead, .0375 in Pitch; RoHS: N; PinCount: 5; ComponentLink1Description: Manufacturer URL; ComponentLink1URL: http://www.national.com/; ComponentLink2Description: LP2981 Datasheet; ComponentLink2URL: http://www.national.com/ds/LP/LP2981.pdf; ComponentLink3Description: LP2981 Web Page; ComponentLink3URL: http://www.national.com/pf/LP/LP2981.html; ComponentLink4Description: MF05A Package Page; ComponentLink4URL: http://www.national.com/packaging/folders/mf05a.html
footprint MF05A_N (SOT23, 5-Leads, Body 2.9x1.6mm, Pitch 0.95mm, Lead Span 2.8mm, IPC Medium Density)
footprint MF05A_L (SOT23, 5-Leads, Body 2.9x1.6mm, Pitch 0.95mm, Lead Span 2.8mm, IPC High Density)
footprint MF05A_M (SOT23, 5-Leads, Body 2.9x1.6mm, Pitch 0.95mm, Lead Span 2.8mm, IPC Low Density)
pins: 1 IN (power), 2 GND (power), 3 ON/~{OFF} (in), 4 NC, 5 OUT (power)

## LP2981AIM5X-3.6
designator U?
Micropower 100 mA Ultra Low-Dropout Regulator, 5-pin SOT-23; PartNumber: LP2981AIM5X-3.6; Manufacturer: National Semiconductor; PackageTopMarking: L0JA*XTT; PowerWise: N; CompType: LDO IC; High-Reliability: Y; DatasheetVersion: Feb-2006; PackageVersion: revD, Aug-2008; PackageReference: MF05A; PackageDescription: Molded SOT-23, .115 x .063 x .040 in Body, 5 Lead, .0375 in Pitch; RoHS: N; PinCount: 5; ComponentLink1Description: Manufacturer URL; ComponentLink1URL: http://www.national.com/; ComponentLink2Description: LP2981 Datasheet; ComponentLink2URL: http://www.national.com/ds/LP/LP2981.pdf; ComponentLink3Description: LP2981 Web Page; ComponentLink3URL: http://www.national.com/pf/LP/LP2981.html; ComponentLink4Description: MF05A Package Page; ComponentLink4URL: http://www.national.com/packaging/folders/mf05a.html
footprint MF05A_N (SOT23, 5-Leads, Body 2.9x1.6mm, Pitch 0.95mm, Lead Span 2.8mm, IPC Medium Density)
footprint MF05A_L (SOT23, 5-Leads, Body 2.9x1.6mm, Pitch 0.95mm, Lead Span 2.8mm, IPC High Density)
footprint MF05A_M (SOT23, 5-Leads, Body 2.9x1.6mm, Pitch 0.95mm, Lead Span 2.8mm, IPC Low Density)
pins: 1 IN (power), 2 GND (power), 3 ON/~{OFF} (in), 4 NC, 5 OUT (power)

## LP2981AIM5X-5.0
designator U?
Micropower 100 mA Ultra Low-Dropout Regulator, 5-pin SOT-23; PartNumber: LP2981AIM5X-5.0; Manufacturer: National Semiconductor; PackageTopMarking: L03A*XTT; PowerWise: N; CompType: LDO IC; High-Reliability: Y; DatasheetVersion: Feb-2006; PackageVersion: revD, Aug-2008; PackageReference: MF05A; PackageDescription: Molded SOT-23, .115 x .063 x .040 in Body, 5 Lead, .0375 in Pitch; RoHS: N; PinCount: 5; ComponentLink1Description: Manufacturer URL; ComponentLink1URL: http://www.national.com/; ComponentLink2Description: LP2981 Datasheet; ComponentLink2URL: http://www.national.com/ds/LP/LP2981.pdf; ComponentLink3Description: LP2981 Web Page; ComponentLink3URL: http://www.national.com/pf/LP/LP2981.html; ComponentLink4Description: MF05A Package Page; ComponentLink4URL: http://www.national.com/packaging/folders/mf05a.html
footprint MF05A_N (SOT23, 5-Leads, Body 2.9x1.6mm, Pitch 0.95mm, Lead Span 2.8mm, IPC Medium Density)
footprint MF05A_L (SOT23, 5-Leads, Body 2.9x1.6mm, Pitch 0.95mm, Lead Span 2.8mm, IPC High Density)
footprint MF05A_M (SOT23, 5-Leads, Body 2.9x1.6mm, Pitch 0.95mm, Lead Span 2.8mm, IPC Low Density)
pins: 1 IN (power), 2 GND (power), 3 ON/~{OFF} (in), 4 NC, 5 OUT (power)

## LP2981IM5-2.5
designator U?
Micropower 100 mA Ultra Low-Dropout Regulator, 5-pin SOT-23; PartNumber: LP2981IM5-2.5; Manufacturer: National Semiconductor; PackageTopMarking: L0CB*XTT; PowerWise: N; CompType: LDO IC; High-Reliability: Y; DatasheetVersion: Feb-2006; PackageVersion: revD, Aug-2008; PackageReference: MF05A; PackageDescription: Molded SOT-23, .115 x .063 x .040 in Body, 5 Lead, .0375 in Pitch; RoHS: N; PinCount: 5; ComponentLink1Description: Manufacturer URL; ComponentLink1URL: http://www.national.com/; ComponentLink2Description: LP2981 Datasheet; ComponentLink2URL: http://www.national.com/ds/LP/LP2981.pdf; ComponentLink3Description: LP2981 Web Page; ComponentLink3URL: http://www.national.com/pf/LP/LP2981.html; ComponentLink4Description: MF05A Package Page; ComponentLink4URL: http://www.national.com/packaging/folders/mf05a.html
footprint MF05A_N (SOT23, 5-Leads, Body 2.9x1.6mm, Pitch 0.95mm, Lead Span 2.8mm, IPC Medium Density)
footprint MF05A_L (SOT23, 5-Leads, Body 2.9x1.6mm, Pitch 0.95mm, Lead Span 2.8mm, IPC High Density)
footprint MF05A_M (SOT23, 5-Leads, Body 2.9x1.6mm, Pitch 0.95mm, Lead Span 2.8mm, IPC Low Density)
pins: 1 IN (power), 2 GND (power), 3 ON/~{OFF} (in), 4 NC, 5 OUT (power)

## LP2981IM5-2.5/NOPB
designator U?
Micropower 100 mA Ultra Low-Dropout Regulator, 5-pin SOT-23, Pb-Free; PartNumber: LP2981IM5-2.5/NOPB; Manufacturer: National Semiconductor; PackageTopMarking: L0CB*XTT; PowerWise: N; CompType: LDO IC; High-Reliability: Y; DatasheetVersion: Feb-2006; PackageVersion: revD, Aug-2008; PackageReference: MF05A; PackageDescription: Molded SOT-23, .115 x .063 x .040 in Body, 5 Lead, .0375 in Pitch; RoHS: Y; PinCount: 5; ComponentLink1Description: Manufacturer URL; ComponentLink1URL: http://www.national.com/; ComponentLink2Description: LP2981 Datasheet; ComponentLink2URL: http://www.national.com/ds/LP/LP2981.pdf; ComponentLink3Description: LP2981 Web Page; ComponentLink3URL: http://www.national.com/pf/LP/LP2981.html; ComponentLink4Description: MF05A Package Page; ComponentLink4URL: http://www.national.com/packaging/folders/mf05a.html
footprint MF05A_N (SOT23, 5-Leads, Body 2.9x1.6mm, Pitch 0.95mm, Lead Span 2.8mm, IPC Medium Density)
footprint MF05A_L (SOT23, 5-Leads, Body 2.9x1.6mm, Pitch 0.95mm, Lead Span 2.8mm, IPC High Density)
footprint MF05A_M (SOT23, 5-Leads, Body 2.9x1.6mm, Pitch 0.95mm, Lead Span 2.8mm, IPC Low Density)
pins: 1 IN (power), 2 GND (power), 3 ON/~{OFF} (in), 4 NC, 5 OUT (power)

## LP2981IM5-3.0
designator U?
Micropower 100 mA Ultra Low-Dropout Regulator, 5-pin SOT-23; PartNumber: LP2981IM5-3.0; Manufacturer: National Semiconductor; PackageTopMarking: L05B*XTT; PowerWise: N; CompType: LDO IC; High-Reliability: Y; DatasheetVersion: Feb-2006; PackageVersion: revD, Aug-2008; PackageReference: MF05A; PackageDescription: Molded SOT-23, .115 x .063 x .040 in Body, 5 Lead, .0375 in Pitch; RoHS: N; PinCount: 5; ComponentLink1Description: Manufacturer URL; ComponentLink1URL: http://www.national.com/; ComponentLink2Description: LP2981 Datasheet; ComponentLink2URL: http://www.national.com/ds/LP/LP2981.pdf; ComponentLink3Description: LP2981 Web Page; ComponentLink3URL: http://www.national.com/pf/LP/LP2981.html; ComponentLink4Description: MF05A Package Page; ComponentLink4URL: http://www.national.com/packaging/folders/mf05a.html
footprint MF05A_N (SOT23, 5-Leads, Body 2.9x1.6mm, Pitch 0.95mm, Lead Span 2.8mm, IPC Medium Density)
footprint MF05A_L (SOT23, 5-Leads, Body 2.9x1.6mm, Pitch 0.95mm, Lead Span 2.8mm, IPC High Density)
footprint MF05A_M (SOT23, 5-Leads, Body 2.9x1.6mm, Pitch 0.95mm, Lead Span 2.8mm, IPC Low Density)
pins: 1 IN (power), 2 GND (power), 3 ON/~{OFF} (in), 4 NC, 5 OUT (power)

## LP2981IM5-3.0/NOPB
designator U?
Micropower 100 mA Ultra Low-Dropout Regulator, 5-pin SOT-23, Pb-Free; PartNumber: LP2981IM5-3.0/NOPB; Manufacturer: National Semiconductor; PackageTopMarking: L05B*XTT; PowerWise: N; CompType: LDO IC; High-Reliability: Y; DatasheetVersion: Feb-2006; PackageVersion: revD, Aug-2008; PackageReference: MF05A; PackageDescription: Molded SOT-23, .115 x .063 x .040 in Body, 5 Lead, .0375 in Pitch; RoHS: Y; PinCount: 5; ComponentLink1Description: Manufacturer URL; ComponentLink1URL: http://www.national.com/; ComponentLink2Description: LP2981 Datasheet; ComponentLink2URL: http://www.national.com/ds/LP/LP2981.pdf; ComponentLink3Description: LP2981 Web Page; ComponentLink3URL: http://www.national.com/pf/LP/LP2981.html; ComponentLink4Description: MF05A Package Page; ComponentLink4URL: http://www.national.com/packaging/folders/mf05a.html
footprint MF05A_N (SOT23, 5-Leads, Body 2.9x1.6mm, Pitch 0.95mm, Lead Span 2.8mm, IPC Medium Density)
footprint MF05A_L (SOT23, 5-Leads, Body 2.9x1.6mm, Pitch 0.95mm, Lead Span 2.8mm, IPC High Density)
footprint MF05A_M (SOT23, 5-Leads, Body 2.9x1.6mm, Pitch 0.95mm, Lead Span 2.8mm, IPC Low Density)
pins: 1 IN (power), 2 GND (power), 3 ON/~{OFF} (in), 4 NC, 5 OUT (power)

## LP2981IM5-3.2
designator U?
Micropower 100 mA Ultra Low-Dropout Regulator, 5-pin SOT-23; PartNumber: LP2981IM5-3.2; Manufacturer: National Semiconductor; PackageTopMarking: L35B*XTT; PowerWise: N; CompType: LDO IC; High-Reliability: Y; DatasheetVersion: Feb-2006; PackageVersion: revD, Aug-2008; PackageReference: MF05A; PackageDescription: Molded SOT-23, .115 x .063 x .040 in Body, 5 Lead, .0375 in Pitch; RoHS: Y; PinCount: 5; ComponentLink1Description: Manufacturer URL; ComponentLink1URL: http://www.national.com/; ComponentLink2Description: LP2981 Datasheet; ComponentLink2URL: http://www.national.com/ds/LP/LP2981.pdf; ComponentLink3Description: LP2981 Web Page; ComponentLink3URL: http://www.national.com/pf/LP/LP2981.html; ComponentLink4Description: MF05A Package Page; ComponentLink4URL: http://www.national.com/packaging/folders/mf05a.html
footprint MF05A_N (SOT23, 5-Leads, Body 2.9x1.6mm, Pitch 0.95mm, Lead Span 2.8mm, IPC Medium Density)
footprint MF05A_L (SOT23, 5-Leads, Body 2.9x1.6mm, Pitch 0.95mm, Lead Span 2.8mm, IPC High Density)
footprint MF05A_M (SOT23, 5-Leads, Body 2.9x1.6mm, Pitch 0.95mm, Lead Span 2.8mm, IPC Low Density)
pins: 1 IN (power), 2 GND (power), 3 ON/~{OFF} (in), 4 NC, 5 OUT (power)

## LP2981IM5-3.3
designator U?
Micropower 100 mA Ultra Low-Dropout Regulator, 5-pin SOT-23; PartNumber: LP2981IM5-3.3; Manufacturer: National Semiconductor; PackageTopMarking: L04B*XTT; PowerWise: N; CompType: LDO IC; High-Reliability: Y; DatasheetVersion: Feb-2006; PackageVersion: revD, Aug-2008; PackageReference: MF05A; PackageDescription: Molded SOT-23, .115 x .063 x .040 in Body, 5 Lead, .0375 in Pitch; RoHS: N; PinCount: 5; ComponentLink1Description: Manufacturer URL; ComponentLink1URL: http://www.national.com/; ComponentLink2Description: LP2981 Datasheet; ComponentLink2URL: http://www.national.com/ds/LP/LP2981.pdf; ComponentLink3Description: LP2981 Web Page; ComponentLink3URL: http://www.national.com/pf/LP/LP2981.html; ComponentLink4Description: MF05A Package Page; ComponentLink4URL: http://www.national.com/packaging/folders/mf05a.html
footprint MF05A_N (SOT23, 5-Leads, Body 2.9x1.6mm, Pitch 0.95mm, Lead Span 2.8mm, IPC Medium Density)
footprint MF05A_L (SOT23, 5-Leads, Body 2.9x1.6mm, Pitch 0.95mm, Lead Span 2.8mm, IPC High Density)
footprint MF05A_M (SOT23, 5-Leads, Body 2.9x1.6mm, Pitch 0.95mm, Lead Span 2.8mm, IPC Low Density)
pins: 1 IN (power), 2 GND (power), 3 ON/~{OFF} (in), 4 NC, 5 OUT (power)

## LP2981IM5-3.3/NOPB
designator U?
Micropower 100 mA Ultra Low-Dropout Regulator, 5-pin SOT-23, Pb-Free; PartNumber: LP2981IM5-3.3/NOPB; Manufacturer: National Semiconductor; PackageTopMarking: L04B*XTT; PowerWise: N; CompType: LDO IC; High-Reliability: Y; DatasheetVersion: Feb-2006; PackageVersion: revD, Aug-2008; PackageReference: MF05A; PackageDescription: Molded SOT-23, .115 x .063 x .040 in Body, 5 Lead, .0375 in Pitch; RoHS: Y; PinCount: 5; ComponentLink1Description: Manufacturer URL; ComponentLink1URL: http://www.national.com/; ComponentLink2Description: LP2981 Datasheet; ComponentLink2URL: http://www.national.com/ds/LP/LP2981.pdf; ComponentLink3Description: LP2981 Web Page; ComponentLink3URL: http://www.national.com/pf/LP/LP2981.html; ComponentLink4Description: MF05A Package Page; ComponentLink4URL: http://www.national.com/packaging/folders/mf05a.html
footprint MF05A_N (SOT23, 5-Leads, Body 2.9x1.6mm, Pitch 0.95mm, Lead Span 2.8mm, IPC Medium Density)
footprint MF05A_L (SOT23, 5-Leads, Body 2.9x1.6mm, Pitch 0.95mm, Lead Span 2.8mm, IPC High Density)
footprint MF05A_M (SOT23, 5-Leads, Body 2.9x1.6mm, Pitch 0.95mm, Lead Span 2.8mm, IPC Low Density)
pins: 1 IN (power), 2 GND (power), 3 ON/~{OFF} (in), 4 NC, 5 OUT (power)

## LP2981IM5-3.6
designator U?
Micropower 100 mA Ultra Low-Dropout Regulator, 5-pin SOT-23; PartNumber: LP2981IM5-3.6; Manufacturer: National Semiconductor; PackageTopMarking: L0JB*XTT; PowerWise: N; CompType: LDO IC; High-Reliability: Y; DatasheetVersion: Feb-2006; PackageVersion: revD, Aug-2008; PackageReference: MF05A; PackageDescription: Molded SOT-23, .115 x .063 x .040 in Body, 5 Lead, .0375 in Pitch; RoHS: N; PinCount: 5; ComponentLink1Description: Manufacturer URL; ComponentLink1URL: http://www.national.com/; ComponentLink2Description: LP2981 Datasheet; ComponentLink2URL: http://www.national.com/ds/LP/LP2981.pdf; ComponentLink3Description: LP2981 Web Page; ComponentLink3URL: http://www.national.com/pf/LP/LP2981.html; ComponentLink4Description: MF05A Package Page; ComponentLink4URL: http://www.national.com/packaging/folders/mf05a.html
footprint MF05A_N (SOT23, 5-Leads, Body 2.9x1.6mm, Pitch 0.95mm, Lead Span 2.8mm, IPC Medium Density)
footprint MF05A_L (SOT23, 5-Leads, Body 2.9x1.6mm, Pitch 0.95mm, Lead Span 2.8mm, IPC High Density)
footprint MF05A_M (SOT23, 5-Leads, Body 2.9x1.6mm, Pitch 0.95mm, Lead Span 2.8mm, IPC Low Density)
pins: 1 IN (power), 2 GND (power), 3 ON/~{OFF} (in), 4 NC, 5 OUT (power)

## LP2981IM5-3.6/NOPB
designator U?
Micropower 100 mA Ultra Low-Dropout Regulator, 5-pin SOT-23, Pb-Free; PartNumber: LP2981IM5-3.6/NOPB; Manufacturer: National Semiconductor; PackageTopMarking: L0JB*XTT; PowerWise: N; CompType: LDO IC; High-Reliability: Y; DatasheetVersion: Feb-2006; PackageVersion: revD, Aug-2008; PackageReference: MF05A; PackageDescription: Molded SOT-23, .115 x .063 x .040 in Body, 5 Lead, .0375 in Pitch; RoHS: Y; PinCount: 5; ComponentLink1Description: Manufacturer URL; ComponentLink1URL: http://www.national.com/; ComponentLink2Description: LP2981 Datasheet; ComponentLink2URL: http://www.national.com/ds/LP/LP2981.pdf; ComponentLink3Description: LP2981 Web Page; ComponentLink3URL: http://www.national.com/pf/LP/LP2981.html; ComponentLink4Description: MF05A Package Page; ComponentLink4URL: http://www.national.com/packaging/folders/mf05a.html
footprint MF05A_N (SOT23, 5-Leads, Body 2.9x1.6mm, Pitch 0.95mm, Lead Span 2.8mm, IPC Medium Density)
footprint MF05A_L (SOT23, 5-Leads, Body 2.9x1.6mm, Pitch 0.95mm, Lead Span 2.8mm, IPC High Density)
footprint MF05A_M (SOT23, 5-Leads, Body 2.9x1.6mm, Pitch 0.95mm, Lead Span 2.8mm, IPC Low Density)
pins: 1 IN (power), 2 GND (power), 3 ON/~{OFF} (in), 4 NC, 5 OUT (power)

## LP2981IM5-5.0
designator U?
Micropower 100 mA Ultra Low-Dropout Regulator, 5-pin SOT-23; PartNumber: LP2981IM5-5.0; Manufacturer: National Semiconductor; PackageTopMarking: L03B*XTT; PowerWise: N; CompType: LDO IC; High-Reliability: Y; DatasheetVersion: Feb-2006; PackageVersion: revD, Aug-2008; PackageReference: MF05A; PackageDescription: Molded SOT-23, .115 x .063 x .040 in Body, 5 Lead, .0375 in Pitch; RoHS: N; PinCount: 5; ComponentLink1Description: Manufacturer URL; ComponentLink1URL: http://www.national.com/; ComponentLink2Description: LP2981 Datasheet; ComponentLink2URL: http://www.national.com/ds/LP/LP2981.pdf; ComponentLink3Description: LP2981 Web Page; ComponentLink3URL: http://www.national.com/pf/LP/LP2981.html; ComponentLink4Description: MF05A Package Page; ComponentLink4URL: http://www.national.com/packaging/folders/mf05a.html
footprint MF05A_N (SOT23, 5-Leads, Body 2.9x1.6mm, Pitch 0.95mm, Lead Span 2.8mm, IPC Medium Density)
footprint MF05A_L (SOT23, 5-Leads, Body 2.9x1.6mm, Pitch 0.95mm, Lead Span 2.8mm, IPC High Density)
footprint MF05A_M (SOT23, 5-Leads, Body 2.9x1.6mm, Pitch 0.95mm, Lead Span 2.8mm, IPC Low Density)
pins: 1 IN (power), 2 GND (power), 3 ON/~{OFF} (in), 4 NC, 5 OUT (power)

## LP2981IM5-5.0/NOPB
designator U?
Micropower 100 mA Ultra Low-Dropout Regulator, 5-pin SOT-23, Pb-Free; PartNumber: LP2981IM5-5.0/NOPB; Manufacturer: National Semiconductor; PackageTopMarking: L03B*XTT; PowerWise: N; CompType: LDO IC; High-Reliability: Y; DatasheetVersion: Feb-2006; PackageVersion: revD, Aug-2008; PackageReference: MF05A; PackageDescription: Molded SOT-23, .115 x .063 x .040 in Body, 5 Lead, .0375 in Pitch; RoHS: Y; PinCount: 5; ComponentLink1Description: Manufacturer URL; ComponentLink1URL: http://www.national.com/; ComponentLink2Description: LP2981 Datasheet; ComponentLink2URL: http://www.national.com/ds/LP/LP2981.pdf; ComponentLink3Description: LP2981 Web Page; ComponentLink3URL: http://www.national.com/pf/LP/LP2981.html; ComponentLink4Description: MF05A Package Page; ComponentLink4URL: http://www.national.com/packaging/folders/mf05a.html
footprint MF05A_N (SOT23, 5-Leads, Body 2.9x1.6mm, Pitch 0.95mm, Lead Span 2.8mm, IPC Medium Density)
footprint MF05A_L (SOT23, 5-Leads, Body 2.9x1.6mm, Pitch 0.95mm, Lead Span 2.8mm, IPC High Density)
footprint MF05A_M (SOT23, 5-Leads, Body 2.9x1.6mm, Pitch 0.95mm, Lead Span 2.8mm, IPC Low Density)
pins: 1 IN (power), 2 GND (power), 3 ON/~{OFF} (in), 4 NC, 5 OUT (power)

## LP2981IM5X-3.0
designator U?
Micropower 100 mA Ultra Low-Dropout Regulator, 5-pin SOT-23; PartNumber: LP2981IM5X-3.0; Manufacturer: National Semiconductor; PackageTopMarking: L05B*XTT; PowerWise: N; CompType: LDO IC; High-Reliability: Y; DatasheetVersion: Feb-2006; PackageVersion: revD, Aug-2008; PackageReference: MF05A; PackageDescription: Molded SOT-23, .115 x .063 x .040 in Body, 5 Lead, .0375 in Pitch; RoHS: N; PinCount: 5; ComponentLink1Description: Manufacturer URL; ComponentLink1URL: http://www.national.com/; ComponentLink2Description: LP2981 Datasheet; ComponentLink2URL: http://www.national.com/ds/LP/LP2981.pdf; ComponentLink3Description: LP2981 Web Page; ComponentLink3URL: http://www.national.com/pf/LP/LP2981.html; ComponentLink4Description: MF05A Package Page; ComponentLink4URL: http://www.national.com/packaging/folders/mf05a.html
footprint MF05A_N (SOT23, 5-Leads, Body 2.9x1.6mm, Pitch 0.95mm, Lead Span 2.8mm, IPC Medium Density)
footprint MF05A_L (SOT23, 5-Leads, Body 2.9x1.6mm, Pitch 0.95mm, Lead Span 2.8mm, IPC High Density)
footprint MF05A_M (SOT23, 5-Leads, Body 2.9x1.6mm, Pitch 0.95mm, Lead Span 2.8mm, IPC Low Density)
pins: 1 IN (power), 2 GND (power), 3 ON/~{OFF} (in), 4 NC, 5 OUT (power)

## LP2981IM5X-3.3
designator U?
Micropower 100 mA Ultra Low-Dropout Regulator, 5-pin SOT-23; PartNumber: LP2981IM5X-3.3; Manufacturer: National Semiconductor; PackageTopMarking: L04B*XTT; PowerWise: N; CompType: LDO IC; High-Reliability: Y; DatasheetVersion: Feb-2006; PackageVersion: revD, Aug-2008; PackageReference: MF05A; PackageDescription: Molded SOT-23, .115 x .063 x .040 in Body, 5 Lead, .0375 in Pitch; RoHS: N; PinCount: 5; ComponentLink1Description: Manufacturer URL; ComponentLink1URL: http://www.national.com/; ComponentLink2Description: LP2981 Datasheet; ComponentLink2URL: http://www.national.com/ds/LP/LP2981.pdf; ComponentLink3Description: LP2981 Web Page; ComponentLink3URL: http://www.national.com/pf/LP/LP2981.html; ComponentLink4Description: MF05A Package Page; ComponentLink4URL: http://www.national.com/packaging/folders/mf05a.html
footprint MF05A_N (SOT23, 5-Leads, Body 2.9x1.6mm, Pitch 0.95mm, Lead Span 2.8mm, IPC Medium Density)
footprint MF05A_L (SOT23, 5-Leads, Body 2.9x1.6mm, Pitch 0.95mm, Lead Span 2.8mm, IPC High Density)
footprint MF05A_M (SOT23, 5-Leads, Body 2.9x1.6mm, Pitch 0.95mm, Lead Span 2.8mm, IPC Low Density)
pins: 1 IN (power), 2 GND (power), 3 ON/~{OFF} (in), 4 NC, 5 OUT (power)